# EAGLE library part HARWIN_4PIN_JT (library DSDEagleLibrary)
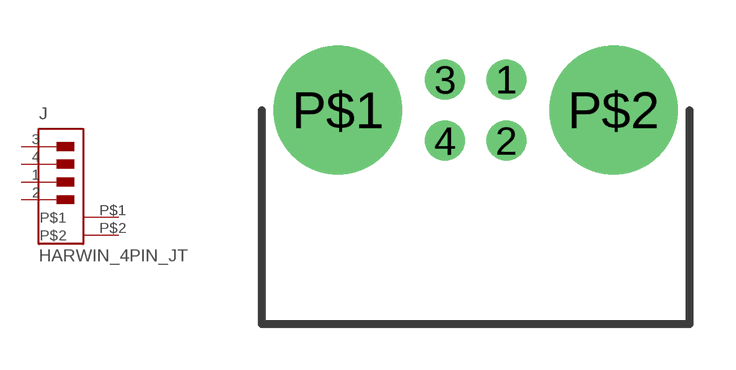
[diagram p23: symbol with the pads of HARWIN_4PIN; footprint HARWIN_4PIN]

Designator prefix J

## HARWIN_4PIN_JT  [HARWIN_4PIN]
1  3
2  4
3  1
4  2
P$1  P$1
P$2  P$2

## Footprint HARWIN_4PIN (pad centres in mm)
drill 0.8: 1 1,1; 2 1,-1; 3 -1,1; 4 -1,-1
drill 2.2 pad 4.2: P$1 -4.5,0; P$2 4.5,0